# Altium integrated library Transistor.IntLib: 3457 symbols (part 18 of 78)
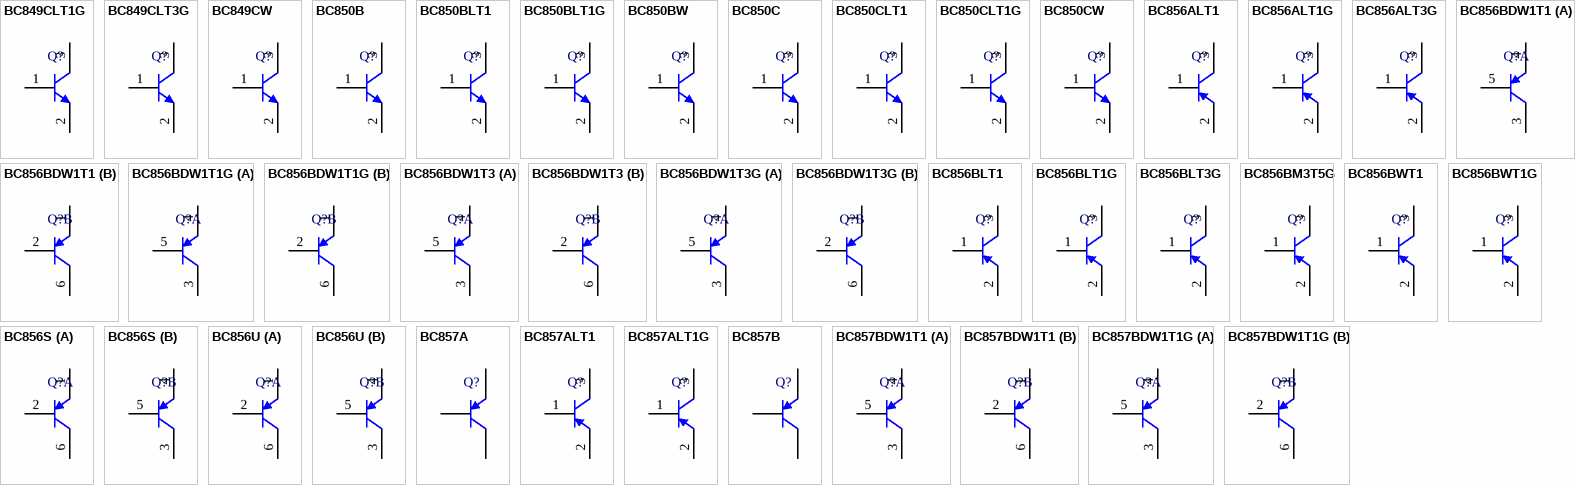
[diagram p111: symbols BC849CLT1G to BC857BDW1T1G]

## BC856ALT3G
designator Q?
General Purpose Transistor, PNP Silicon, 3-Pin SOT-23, Pb-Free, Tape and Reel; Manufacturer: On Semiconductor; PartNumber: BC856ALT3G; fT Min (MHz): 100; IC Continuous (A): -0.1; DatasheetVersion: Rev. 13; PackageVersion: Rev. AP, 11/2009; PackageReference: SOT-23-3-318-08; PackageDescription: 3-Pin Small Outline Transistor, Body 2.92 x 1.3 mm, Pitch 0.95 mm; Supplier 1: Digi-Key; Supplier Part Number 1: BC856ALT3G-ND; Supplier 2: Mouser; Supplier Part Number 2: 863-BC856ALT3G; Packing: Tape and Reel; Polarity: PNP; RoHS: TRUE; Mounting Technology: Surface Mount; ComponentLink1Description: Manufacturer URL; ComponentLink1URL: http://www.onsemi.com/; ComponentLink2Description: Datasheet; ComponentLink2URL: http://www.onsemi.cn/pub_link/Collateral/BC856ALT1-D.PDF; ComponentLink3Description: Package Specification; ComponentLink3URL: http://www.onsemi.cn/pub_link/Collateral/318-08.PDF
footprint ONSC-SOT-23-3-318-08_V (SOT23, 3-Leads, Body 2.92x1.3mm, Pitch 0.95mm)
pins: 1 B, 2 E, 3 C

## BC856BDW1T1
designator Q?
Dual General Purpose Transistors, PNP, 6-Pin SOT-363, Tape and Reel; Manufacturer: On Semiconductor; PartNumber: BC856BDW1T1; fT Min (MHz): 100; IC Continuous (A): -0.1; Polarity: Dual PNP; DatasheetVersion: Rev. 9; PackageVersion: Rev. W, 01/2006; PackageReference: SOT-363-6-419B-02_W; PackageDescription: 6-Pin Small Outline Transistor, Body 2 x 1.25 mm, Pitch 0.65 mm; Supplier 1: Digi-Key; Supplier Part Number 1: BC856BDW1T1-ND; Packing: Tape and Reel; RoHS: FALSE; Mounting Technology: Surface Mount; ComponentLink1Description: Manufacturer URL; ComponentLink1URL: http://www.onsemi.com/; ComponentLink2Description: Datasheet; ComponentLink2URL: http://www.onsemi.cn/pub_link/Collateral/BC856BDW1T1-D.PDF; ComponentLink3Description: Package Specification; ComponentLink3URL: http://www.onsemi.com/pub_link/Collateral/NTJD4001N-D.PDF
footprint ONSC-SOT-363-6-419B-02_W_V (SOT23, 6-Leads, Body 2x1.25mm, Pitch 0.65mm)
part A pins: 3 C, 4 E, 5 B
part B pins: 1 E, 2 B, 6 C

## BC856BDW1T1G
designator Q?
Dual General Purpose Transistors, PNP, 6-Pin SOT-363, Pb-Free, Tape and Reel; Manufacturer: On Semiconductor; PartNumber: BC856BDW1T1G; fT Min (MHz): 100; IC Continuous (A): -0.1; Polarity: Dual PNP; DatasheetVersion: Rev. 9; PackageVersion: Rev. W, 01/2006; PackageReference: SOT-363-6-419B-02_W; PackageDescription: 6-Pin Small Outline Transistor, Body 2 x 1.25 mm, Pitch 0.65 mm; Supplier 1: Digi-Key; Supplier Part Number 1: BC856BDW1T1GOSTR-ND; Supplier 2: Digi-Key; Supplier Part Number 2: BC856BDW1T1GOSCT-ND; Supplier 3: Digi-Key; Supplier Part Number 3: BC856BDW1T1GOSDKR-ND; Supplier 4: Farnell; Supplier Part Number 4: 2317637; Supplier 5: Farnell; Supplier Part Number 5: 2369091; Supplier 6: Newark; Supplier Part Number 6: 26K3474; Supplier 7: Newark; Supplier Part Number 7: 10N9391; Supplier 8: Mouser; Supplier Part Number 8: 863-BC856BDW1T1G; Packing: Tape and Reel; RoHS: TRUE; Mounting Technology: Surface Mount; ComponentLink1Description: Manufacturer URL; ComponentLink1URL: http://www.onsemi.com/; ComponentLink2Description: Datasheet; ComponentLink2URL: http://www.onsemi.cn/pub_link/Collateral/BC856BDW1T1-D.PDF; ComponentLink3Description: Package Specification; ComponentLink3URL: http://www.onsemi.com/pub_link/Collateral/NTJD4001N-D.PDF
footprint ONSC-SOT-363-6-419B-02_W_V (SOT23, 6-Leads, Body 2x1.25mm, Pitch 0.65mm)
part A pins: 3 C, 4 E, 5 B
part B pins: 1 E, 2 B, 6 C

## BC856BDW1T3
designator Q?
Dual General Purpose Transistors, PNP, 6-Pin SOT-363, Tape and Reel; Manufacturer: On Semiconductor; PartNumber: BC856BDW1T3; Note: 0; fT Min (MHz): 100; IC Continuous (A): -0.1; Polarity: Dual PNP; DatasheetVersion: Rev. 9; PackageVersion: Rev. W, 01/2006; PackageReference: SOT-363-6-419B-02_W; PackageDescription: 6-Pin Small Outline Transistor, Body 2 x 1.25 mm, Pitch 0.65 mm; Packing: Tape and Reel; RoHS: FALSE; Mounting Technology: Surface Mount; ComponentLink1Description: Manufacturer URL; ComponentLink1URL: http://www.onsemi.com/; ComponentLink2Description: Datasheet; ComponentLink2URL: http://www.onsemi.cn/pub_link/Collateral/BC856BDW1T1-D.PDF; ComponentLink3Description: Package Specification; ComponentLink3URL: http://www.onsemi.com/pub_link/Collateral/NTJD4001N-D.PDF
footprint ONSC-SOT-363-6-419B-02_W_V (SOT23, 6-Leads, Body 2x1.25mm, Pitch 0.65mm)
part A pins: 3 C, 4 E, 5 B
part B pins: 1 E, 2 B, 6 C

## BC856BDW1T3G
designator Q?
Dual General Purpose Transistors, PNP, 6-Pin SOT-363, Pb-Free, Tape and Reel; Manufacturer: On Semiconductor; PartNumber: BC856BDW1T3G; fT Min (MHz): 100; IC Continuous (A): -0.1; Polarity: Dual PNP; DatasheetVersion: Rev. 9; PackageVersion: Rev. W, 01/2006; PackageReference: SOT-363-6-419B-02_W; PackageDescription: 6-Pin Small Outline Transistor, Body 2 x 1.25 mm, Pitch 0.65 mm; Supplier 1: Digi-Key; Supplier Part Number 1: BC856BDW1T3G-ND; Supplier 2: Mouser; Supplier Part Number 2: 863-BC856BDW1T3G; Packing: Tape and Reel; RoHS: TRUE; Mounting Technology: Surface Mount; ComponentLink1Description: Manufacturer URL; ComponentLink1URL: http://www.onsemi.com/; ComponentLink2Description: Datasheet; ComponentLink2URL: http://www.onsemi.cn/pub_link/Collateral/BC856BDW1T1-D.PDF; ComponentLink3Description: Package Specification; ComponentLink3URL: http://www.onsemi.com/pub_link/Collateral/NTJD4001N-D.PDF
footprint ONSC-SOT-363-6-419B-02_W_V (SOT23, 6-Leads, Body 2x1.25mm, Pitch 0.65mm)
part A pins: 3 C, 4 E, 5 B
part B pins: 1 E, 2 B, 6 C

## BC856BLT1
designator Q?
General Purpose Transistor, PNP Silicon, 3-Pin SOT-23, Tape and Reel; Manufacturer: On Semiconductor; PartNumber: BC856BLT1; fT Min (MHz): 100; IC Continuous (A): -0.1; DatasheetVersion: Rev. 13; PackageVersion: Rev. AP, 11/2009; PackageReference: SOT-23-3-318-08; PackageDescription: 3-Pin Small Outline Transistor, Body 2.92 x 1.3 mm, Pitch 0.95 mm; Supplier 1: Digi-Key; Supplier Part Number 1: BC856BLT1OSCT-ND; Packing: Tape and Reel; Polarity: PNP; RoHS: FALSE; Mounting Technology: Surface Mount; ComponentLink1Description: Manufacturer URL; ComponentLink1URL: http://www.onsemi.com/; ComponentLink2Description: Datasheet; ComponentLink2URL: http://www.onsemi.cn/pub_link/Collateral/BC856ALT1-D.PDF; ComponentLink3Description: Package Specification; ComponentLink3URL: http://www.onsemi.cn/pub_link/Collateral/318-08.PDF
footprint ONSC-SOT-23-3-318-08_V (SOT23, 3-Leads, Body 2.92x1.3mm, Pitch 0.95mm)
pins: 1 B, 2 E, 3 C

## BC856BLT1G
designator Q?
General Purpose Transistor, PNP Silicon, 3-Pin SOT-23, Pb-Free, Tape and Reel; Manufacturer: On Semiconductor; PartNumber: BC856BLT1G; fT Min (MHz): 100; IC Continuous (A): -0.1; DatasheetVersion: Rev. 13; PackageVersion: Rev. AP, 11/2009; PackageReference: SOT-23-3-318-08; PackageDescription: 3-Pin Small Outline Transistor, Body 2.92 x 1.3 mm, Pitch 0.95 mm; Supplier 1: Digi-Key; Supplier Part Number 1: BC856BLT1GOSTR-ND; Supplier 2: Digi-Key; Supplier Part Number 2: BC856BLT1GOSCT-ND; Supplier 3: Digi-Key; Supplier Part Number 3: BC856BLT1GOSDKR-ND; Supplier 4: Farnell; Supplier Part Number 4: 1459043; Supplier 5: Farnell; Supplier Part Number 5: 1459043RL; Supplier 6: Farnell; Supplier Part Number 6: 2317827; Supplier 7: Newark; Supplier Part Number 7: 85W3123; Supplier 8: Newark; Supplier Part Number 8: 88H4573; Supplier 9: Mouser; Supplier Part Number 9: 863-BC856BLT1G; Packing: Tape and Reel; Polarity: PNP; RoHS: TRUE; Mounting Technology: Surface Mount; ComponentLink1Description: Manufacturer URL; ComponentLink1URL: http://www.onsemi.com/; ComponentLink2Description: Datasheet; ComponentLink2URL: http://www.onsemi.cn/pub_link/Collateral/BC856ALT1-D.PDF; ComponentLink3Description: Package Specification; ComponentLink3URL: http://www.onsemi.cn/pub_link/Collateral/318-08.PDF
footprint ONSC-SOT-23-3-318-08_V (SOT23, 3-Leads, Body 2.92x1.3mm, Pitch 0.95mm)
pins: 1 B, 2 E, 3 C

## BC856BLT3G
designator Q?
General Purpose Transistor, PNP Silicon, 3-Pin SOT-23, Pb-Free, Tape and Reel; Manufacturer: On Semiconductor; PartNumber: BC856BLT3G; fT Min (MHz): 100; IC Continuous (A): -0.1; DatasheetVersion: Rev. 13; PackageVersion: Rev. AP, 11/2009; PackageReference: SOT-23-3-318-08; PackageDescription: 3-Pin Small Outline Transistor, Body 2.92 x 1.3 mm, Pitch 0.95 mm; Supplier 1: Digi-Key; Supplier Part Number 1: BC856BLT3GOSTR-ND; Supplier 2: Digi-Key; Supplier Part Number 2: BC856BLT3GOSCT-ND; Supplier 3: Digi-Key; Supplier Part Number 3: BC856BLT3GOSDKR-ND; Supplier 4: Mouser; Supplier Part Number 4: 863-BC856BLT3G; Packing: Tape and Reel; Polarity: PNP; RoHS: TRUE; Mounting Technology: Surface Mount; ComponentLink1Description: Manufacturer URL; ComponentLink1URL: http://www.onsemi.com/; ComponentLink2Description: Datasheet; ComponentLink2URL: http://www.onsemi.cn/pub_link/Collateral/BC856ALT1-D.PDF; ComponentLink3Description: Package Specification; ComponentLink3URL: http://www.onsemi.cn/pub_link/Collateral/318-08.PDF
footprint ONSC-SOT-23-3-318-08_V (SOT23, 3-Leads, Body 2.92x1.3mm, Pitch 0.95mm)
pins: 1 B, 2 E, 3 C

## BC856BM3T5G
designator Q?
General Purpose Transistor, PNP Silicon, 3-Pin SOT-723, Pb-Free, Tape and Reel; Manufacturer: On Semiconductor; PartNumber: BC856BM3T5G; fT Min (MHz): 100; IC Continuous (A): -0.1; DatasheetVersion: Rev. 2; PackageVersion: Rev. D, 08/2009; PackageReference: SOT-723-3-631AA-01; PackageDescription: 3-Pin Small Outline Transistor, Body 1.2 x 0.8 mm, Pitch 0.4 mm; Supplier 1: Digi-Key; Supplier Part Number 1: BC856BM3T5GOSTR-ND; Supplier 2: Digi-Key; Supplier Part Number 2: BC856BM3T5GOSCT-ND; Supplier 3: Digi-Key; Supplier Part Number 3: BC856BM3T5GOSDKR-ND; Supplier 4: Newark; Supplier Part Number 4: 45J0602; Supplier 5: Mouser; Supplier Part Number 5: 863-BC856BM3T5G; Packing: Tape and Reel; Polarity: PNP; RoHS: TRUE; Mounting Technology: Surface Mount; ComponentLink1Description: Manufacturer URL; ComponentLink1URL: http://www.onsemi.com/; ComponentLink2Description: Datasheet; ComponentLink2URL: http://www.onsemi.cn/pub_link/Collateral/BC856BM3-D.PDF; ComponentLink3Description: Package Specification; ComponentLink3URL: http://www.onsemi.com/pub_link/Collateral/631AA.PDF
footprint ONSC-SOT-723-3-631AA-01_V (SOT223, 3-Leads, Body 1.2x0.8mm, Pitch 0.4mm)
pins: 1 B, 2 E, 3 C

## BC856BWT1
designator Q?
General Purpose Transistor, PNP Silicon, 3-Pin SC70, Tape and Reel; Manufacturer: On Semiconductor; PartNumber: BC856BWT1; Note: 0; fT Min (MHz): 100; IC Continuous (A): -0.1; DatasheetVersion: Rev. 3; PackageVersion: Rev. N, 11/2008; PackageReference: SC-70-3-419-04; PackageDescription: 3-Pin Small Outline Transistor, Body 2 x 1.25 mm, Pitch 0.65 mm; Packing: Tape and Reel; Polarity: PNP; RoHS: FALSE; Mounting Technology: Surface Mount; ComponentLink1Description: Manufacturer URL; ComponentLink1URL: http://www.onsemi.com/; ComponentLink2Description: Datasheet; ComponentLink2URL: http://www.onsemi.cn/pub_link/Collateral/BC856BWT1-D.PDF; ComponentLink3Description: Package Specification; ComponentLink3URL: http://www.onsemi.cn/pub_link/Collateral/419-04.PDF
footprint ONSC-SC-70-3-419-04_V (SOT23, 3-Leads, Body 2x1.25mm, Pitch 0.65mm)
pins: 1 B, 2 E, 3 C

## BC856BWT1G
designator Q?
General Purpose Transistor, PNP Silicon, 3-Pin SC70, Pb-Free, Tape and Reel; Manufacturer: On Semiconductor; PartNumber: BC856BWT1G; fT Min (MHz): 100; IC Continuous (A): -0.1; DatasheetVersion: Rev. 3; PackageVersion: Rev. N, 11/2008; PackageReference: SC-70-3-419-04; PackageDescription: 3-Pin Small Outline Transistor, Body 2 x 1.25 mm, Pitch 0.65 mm; Supplier 1: Digi-Key; Supplier Part Number 1: BC856BWT1GOSTR-ND; Supplier 2: Digi-Key; Supplier Part Number 2: BC856BWT1GOSCT-ND; Supplier 3: Digi-Key; Supplier Part Number 3: BC856BWT1GOSDKR-ND; Supplier 4: Newark; Supplier Part Number 4: 98H0506; Supplier 5: Mouser; Supplier Part Number 5: 863-BC856BWT1G; Packing: Tape and Reel; Polarity: PNP; RoHS: TRUE; Mounting Technology: Surface Mount; ComponentLink1Description: Manufacturer URL; ComponentLink1URL: http://www.onsemi.com/; ComponentLink2Description: Datasheet; ComponentLink2URL: http://www.onsemi.cn/pub_link/Collateral/BC856BWT1-D.PDF; ComponentLink3Description: Package Specification; ComponentLink3URL: http://www.onsemi.cn/pub_link/Collateral/419-04.PDF
footprint ONSC-SC-70-3-419-04_V (SOT23, 3-Leads, Body 2x1.25mm, Pitch 0.65mm)
pins: 1 B, 2 E, 3 C

## BC856S
designator Q?
PNP Silicon AF Transistor Array, 65 V VCEO, 100 mA IC, SOT363, Reel, Green; Manufacturer: Infineon; PartNumber: BC856S; fT (typ): 250 MHz; Green: TRUE; IC: 100 mA; ICBO (max): 15 nA; ICM (max): 200 mA; Ptot (max): 250 mV; VCBO (max): 80 V; VCE: 5 V; VCEO (max): 65 V; PackageReference: SOT363; PackageDescription: 6-Pin Small Outline Transistor Package, 1.25 x 2 mm Body; Halogen-free: TRUE; IC (max): 100 mA; Packing: Reel; Polarity: PNP; VCE (max): 5 V; VEBO (max): 5 V; Mounting Technology: Surface Mount; ComponentLink1Description: Manufacturer URL; ComponentLink1URL: http://www.infineon.com/; ComponentLink2Description: Datasheet; ComponentLink2URL: http://www.infineon.com/dgdl/bc856s_bc856u_bc857s.pdf?folderId=db3a30431441fb5d0114498f7eab01ce&fileId=db3a30431441fb5d011449a3156401d8; ComponentLink3Description: Package Specification; ComponentLink3URL: http://www.infineon.com/dgdl/SOT363-Package_Overview.pdf?folderId=db3a30431936bc4b01195360bd8f3cdc&fileId=db3a30431936bc4b0119536b62bf3cf5
footprint INF-SOT363_V (SOT23, 6-Leads, Body 2x1.25 mm, Pitch 0.65 mm)
part A pins: 1 E1, 2 B1, 6 C1
part B pins: 3 C2, 4 E2, 5 B2

## BC856U
designator Q?
PNP Silicon AF Transistor Array, 65 V VCEO, 100 mA IC, SC74, Reel, Green; Manufacturer: Infineon; PartNumber: BC856U; fT (typ): 250 MHz; Green: TRUE; hFE (min): 200; IC (max): 100 mA; ICBO (max): 15 nA; ICM (max): 200 mA; Ptot (max): 250 mW; VCBO (max): 80 V; VCEO (max): 65 V; VEBO (max): 5 V; PackageVersion: Apr-08; PackageReference: SC74; PackageDescription: 6-Pin Semiconductor Package, 2.9 x 1.6 mm Body, 0.95 mm Pitch; Supplier 1: Mouser; Supplier Part Number 1: N/A; Packing: Reel; Polarity: PNP; Mounting Technology: Surface Mount; ComponentLink1Description: Manufacturer URL; ComponentLink1URL: http://www.infineon.com/; ComponentLink2Description: Datasheet; ComponentLink2URL: http://www.infineon.com/dgdl/bc856s_bc856u_bc857s.pdf?folderId=db3a30431441fb5d0114498f7eab01ce&fileId=db3a30431441fb5d011449a3156401d8; ComponentLink3Description: Package Specification; ComponentLink3URL: http://www.infineon.com/dgdl/SC74-Package_Overview.pdf?folderId=db3a30431936bc4b01194dec844f40d9&fileId=db3a30431936bc4b01195175d46e3ab3
footprint INF-SC74_N (SOT23, 6-Leads, Body 2.9x1.6mm, Pitch 0.95mm, IPC Medium Density)
footprint INF-SC74_L (SOT23, 6-Leads, Body 2.9x1.6mm, Pitch 0.95mm, IPC High Density)
footprint INF-SC74_M (SOT23, 6-Leads, Body 2.9x1.6mm, Pitch 0.95mm, IPC Low Density)
part A pins: 1 E1, 2 B1, 6 C1
part B pins: 3 C2, 4 E2, 5 B2

## BC857A
designator Q?
PNP Silicon AF Transistor, 45 V VCEO, 100 mA IC, SOT23, Reel, Green; Manufacturer: Infineon; PartNumber: BC857A; fT (typ): 250 MHz; Green: TRUE; IBM (max): 200 mA; IC (max): 100 mA; ICBO (max): 15 nA; Ptot (max): 330 mW; VCBO (max): 50 V; VCEO (max): 45 V; VEBO (max): 5 V; PackageVersion: Apr-08; PackageReference: SOT23; PackageDescription: 3-Pin Small Outline Transistor Package, 1.3 x 2.9 mm Body, 0.95 mm Pitch; ICM (max): 200 mA; Packing: Reel; Polarity: PNP; Mounting Technology: Surface Mount; ComponentLink1Description: Manufacturer URL; ComponentLink1URL: http://www.infineon.com/; ComponentLink2Description: Datasheet; ComponentLink2URL: http://www.infineon.com/dgdl/bc857series_bc858series_bc859series_bc860series.pdf?folderId=db3a304314dca389011541d30fa21656&fileId=db3a304314dca389011541da0e3a1661; ComponentLink3Description: Package Specification; ComponentLink3URL: http://www.infineon.com/dgdl/SOT23-Package_Overview.pdf?folderId=db3a30431936bc4b0119532290053c66&fileId=db3a30431936bc4b0119533468123c85
footprint INF-SOT23_N (SOT23, 3-Leads, Body 2.9x1.3 mm, Pitch 0.95 mm, IPC Medium Density)
footprint INF-SOT23_L (SOT23, 3-Leads, Body 2.9x1.3 mm, Pitch 0.95 mm, IPC High Density)
footprint INF-SOT23_M (SOT23, 3-Leads, Body 2.9x1.3 mm, Pitch 0.95 mm, IPC Low Density)
pins: 1 B, 2 E, 3 C

## BC857ALT1
designator Q?
General Purpose Transistor, PNP Silicon, 3-Pin SOT-23, Tape and Reel; Manufacturer: On Semiconductor; PartNumber: BC857ALT1; Note: 0; fT Min (MHz): 100; IC Continuous (A): -0.1; DatasheetVersion: Rev. 13; PackageVersion: Rev. AP, 11/2009; PackageReference: SOT-23-3-318-08; PackageDescription: 3-Pin Small Outline Transistor, Body 2.92 x 1.3 mm, Pitch 0.95 mm; Packing: Tape and Reel; Polarity: PNP; RoHS: FALSE; Mounting Technology: Surface Mount; ComponentLink1Description: Manufacturer URL; ComponentLink1URL: http://www.onsemi.com/; ComponentLink2Description: Datasheet; ComponentLink2URL: http://www.onsemi.cn/pub_link/Collateral/BC856ALT1-D.PDF; ComponentLink3Description: Package Specification; ComponentLink3URL: http://www.onsemi.cn/pub_link/Collateral/318-08.PDF
footprint ONSC-SOT-23-3-318-08_V (SOT23, 3-Leads, Body 2.92x1.3mm, Pitch 0.95mm)
pins: 1 B, 2 E, 3 C

## BC857ALT1G
designator Q?
General Purpose Transistor, PNP Silicon, 3-Pin SOT-23, Pb-Free, Tape and Reel; Manufacturer: On Semiconductor; PartNumber: BC857ALT1G; fT Min (MHz): 100; IC Continuous (A): -0.1; DatasheetVersion: Rev. 13; PackageVersion: Rev. AP, 11/2009; PackageReference: SOT-23-3-318-08; PackageDescription: 3-Pin Small Outline Transistor, Body 2.92 x 1.3 mm, Pitch 0.95 mm; Supplier 1: Digi-Key; Supplier Part Number 1: BC857ALT1GOSTR-ND; Supplier 2: Digi-Key; Supplier Part Number 2: BC857ALT1GOSCT-ND; Supplier 3: Digi-Key; Supplier Part Number 3: BC857ALT1GOSDKR-ND; Supplier 4: Newark; Supplier Part Number 4: 45J0603; Supplier 5: Mouser; Supplier Part Number 5: 863-BC857ALT1G; Packing: Tape and Reel; Polarity: PNP; RoHS: TRUE; Mounting Technology: Surface Mount; ComponentLink1Description: Manufacturer URL; ComponentLink1URL: http://www.onsemi.com/; ComponentLink2Description: Datasheet; ComponentLink2URL: http://www.onsemi.cn/pub_link/Collateral/BC856ALT1-D.PDF; ComponentLink3Description: Package Specification; ComponentLink3URL: http://www.onsemi.cn/pub_link/Collateral/318-08.PDF
footprint ONSC-SOT-23-3-318-08_V (SOT23, 3-Leads, Body 2.92x1.3mm, Pitch 0.95mm)
pins: 1 B, 2 E, 3 C

## BC857B
designator Q?
PNP Silicon AF Transistor, 45 V VCEO, 100 mA IC, SOT23, Reel, Green; Manufacturer: Infineon; PartNumber: BC857B; fT (typ): 250 MHz; Green: TRUE; IBM (max): 200 mA; IC (max): 100 mA; ICBO (max): 15 nA; Ptot (max): 330 mW; VCBO (max): 50 V; VCEO (max): 45 V; VEBO (max): 5 V; PackageVersion: Apr-08; PackageReference: SOT23; PackageDescription: 3-Pin Small Outline Transistor Package, 1.3 x 2.9 mm Body, 0.95 mm Pitch; Supplier 1: Arrow; Supplier Part Number 1: GzrebZXGdtZ4H1bLD96Fsz_tSDGv0MrI0uNNxkYYBuE; ICM (max): 200 mA; Packing: Reel; Polarity: PNP; Mounting Technology: Surface Mount; ComponentLink1Description: Manufacturer URL; ComponentLink1URL: http://www.infineon.com/; ComponentLink2Description: Datasheet; ComponentLink2URL: http://www.infineon.com/dgdl/bc857series_bc858series_bc859series_bc860series.pdf?folderId=db3a304314dca389011541d30fa21656&fileId=db3a304314dca389011541da0e3a1661; ComponentLink3Description: Package Specification; ComponentLink3URL: http://www.infineon.com/dgdl/SOT23-Package_Overview.pdf?folderId=db3a30431936bc4b0119532290053c66&fileId=db3a30431936bc4b0119533468123c85
footprint INF-SOT23_N (SOT23, 3-Leads, Body 2.9x1.3 mm, Pitch 0.95 mm, IPC Medium Density)
footprint INF-SOT23_L (SOT23, 3-Leads, Body 2.9x1.3 mm, Pitch 0.95 mm, IPC High Density)
footprint INF-SOT23_M (SOT23, 3-Leads, Body 2.9x1.3 mm, Pitch 0.95 mm, IPC Low Density)
pins: 1 B, 2 E, 3 C

## BC857BDW1T1
designator Q?
Dual General Purpose Transistors, PNP, 6-Pin SOT-363, Tape and Reel; Manufacturer: On Semiconductor; PartNumber: BC857BDW1T1; Note: 0; fT Min (MHz): 100; IC Continuous (A): -0.1; Polarity: Dual PNP; DatasheetVersion: Rev. 9; PackageVersion: Rev. W, 01/2006; PackageReference: SOT-363-6-419B-02_W; PackageDescription: 6-Pin Small Outline Transistor, Body 2 x 1.25 mm, Pitch 0.65 mm; Packing: Tape and Reel; RoHS: FALSE; Mounting Technology: Surface Mount; ComponentLink1Description: Manufacturer URL; ComponentLink1URL: http://www.onsemi.com/; ComponentLink2Description: Datasheet; ComponentLink2URL: http://www.onsemi.cn/pub_link/Collateral/BC856BDW1T1-D.PDF; ComponentLink3Description: Package Specification; ComponentLink3URL: http://www.onsemi.com/pub_link/Collateral/NTJD4001N-D.PDF
footprint ONSC-SOT-363-6-419B-02_W_V (SOT23, 6-Leads, Body 2x1.25mm, Pitch 0.65mm)
part A pins: 3 C, 4 E, 5 B
part B pins: 1 E, 2 B, 6 C

## BC857BDW1T1G
designator Q?
Dual General Purpose Transistors, PNP, 6-Pin SOT-363, Pb-Free, Tape and Reel; Manufacturer: On Semiconductor; PartNumber: BC857BDW1T1G; fT Min (MHz): 100; IC Continuous (A): -0.1; Polarity: Dual PNP; DatasheetVersion: Rev. 9; PackageVersion: Rev. W, 01/2006; PackageReference: SOT-363-6-419B-02_W; PackageDescription: 6-Pin Small Outline Transistor, Body 2 x 1.25 mm, Pitch 0.65 mm; Supplier 1: Digi-Key; Supplier Part Number 1: BC857BDW1T1GOSTR-ND; Supplier 2: Digi-Key; Supplier Part Number 2: BC857BDW1T1GOSCT-ND; Supplier 3: Digi-Key; Supplier Part Number 3: BC857BDW1T1GOSDKR-ND; Supplier 4: Farnell; Supplier Part Number 4: 1653608; Supplier 5: Farnell; Supplier Part Number 5: 1653608RL; Supplier 6: Newark; Supplier Part Number 6: 26K3475; Supplier 7: Mouser; Supplier Part Number 7: 863-BC857BDW1T1G; Packing: Tape and Reel; RoHS: TRUE; Mounting Technology: Surface Mount; ComponentLink1Description: Manufacturer URL; ComponentLink1URL: http://www.onsemi.com/; ComponentLink2Description: Datasheet; ComponentLink2URL: http://www.onsemi.cn/pub_link/Collateral/BC856BDW1T1-D.PDF; ComponentLink3Description: Package Specification; ComponentLink3URL: http://www.onsemi.com/pub_link/Collateral/NTJD4001N-D.PDF
footprint ONSC-SOT-363-6-419B-02_W_V (SOT23, 6-Leads, Body 2x1.25mm, Pitch 0.65mm)
part A pins: 3 C, 4 E, 5 B
part B pins: 1 E, 2 B, 6 C

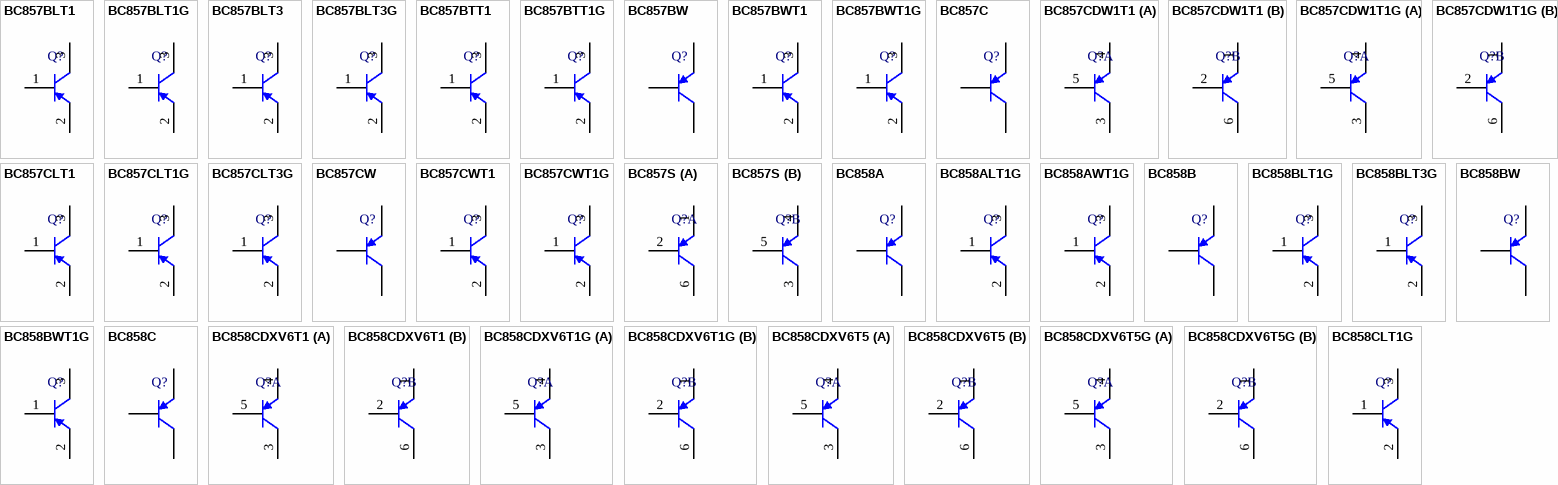
[diagram p21: symbols BC857BLT1 to BC858CLT1G]

## BC857BLT1
designator Q?
General Purpose Transistor, PNP Silicon, 3-Pin SOT-23, Tape and Reel; Manufacturer: On Semiconductor; PartNumber: BC857BLT1; fT Min (MHz): 100; IC Continuous (A): -0.1; DatasheetVersion: Rev. 13; PackageVersion: Rev. AP, 11/2009; PackageReference: SOT-23-3-318-08; PackageDescription: 3-Pin Small Outline Transistor, Body 2.92 x 1.3 mm, Pitch 0.95 mm; Supplier 1: Digi-Key; Supplier Part Number 1: BC857BLT1OSCT-ND; Packing: Tape and Reel; Polarity: PNP; RoHS: FALSE; Mounting Technology: Surface Mount; ComponentLink1Description: Manufacturer URL; ComponentLink1URL: http://www.onsemi.com/; ComponentLink2Description: Datasheet; ComponentLink2URL: http://www.onsemi.cn/pub_link/Collateral/BC856ALT1-D.PDF; ComponentLink3Description: Package Specification; ComponentLink3URL: http://www.onsemi.cn/pub_link/Collateral/318-08.PDF
footprint ONSC-SOT-23-3-318-08_V (SOT23, 3-Leads, Body 2.92x1.3mm, Pitch 0.95mm)
pins: 1 B, 2 E, 3 C

## BC857BLT1G
designator Q?
General Purpose Transistor, PNP Silicon, 3-Pin SOT-23, Pb-Free, Tape and Reel; Manufacturer: On Semiconductor; PartNumber: BC857BLT1G; fT Min (MHz): 100; IC Continuous (A): -0.1; DatasheetVersion: Rev. 13; PackageVersion: Rev. AP, 11/2009; PackageReference: SOT-23-3-318-08; PackageDescription: 3-Pin Small Outline Transistor, Body 2.92 x 1.3 mm, Pitch 0.95 mm; Supplier 1: Digi-Key; Supplier Part Number 1: BC857BLT1GOSTR-ND; Supplier 2: Digi-Key; Supplier Part Number 2: BC857BLT1GOSCT-ND; Supplier 3: Digi-Key; Supplier Part Number 3: BC857BLT1GOSDKR-ND; Supplier 4: Farnell; Supplier Part Number 4: 1459044; Supplier 5: Farnell; Supplier Part Number 5: 1459044RL; Supplier 6: Farnell; Supplier Part Number 6: 2317834; Supplier 7: Newark; Supplier Part Number 7: 85W3125; Supplier 8: Newark; Supplier Part Number 8: 88H4574; Supplier 9: Mouser; Supplier Part Number 9: 863-BC857BLT1G; Packing: Tape and Reel; Polarity: PNP; RoHS: TRUE; Mounting Technology: Surface Mount; ComponentLink1Description: Manufacturer URL; ComponentLink1URL: http://www.onsemi.com/; ComponentLink2Description: Datasheet; ComponentLink2URL: http://www.onsemi.cn/pub_link/Collateral/BC856ALT1-D.PDF; ComponentLink3Description: Package Specification; ComponentLink3URL: http://www.onsemi.cn/pub_link/Collateral/318-08.PDF
footprint ONSC-SOT-23-3-318-08_V (SOT23, 3-Leads, Body 2.92x1.3mm, Pitch 0.95mm)
pins: 1 B, 2 E, 3 C

## BC857BLT3
designator Q?
General Purpose Transistor, PNP Silicon, 3-Pin SOT-23, Tape and Reel; Manufacturer: On Semiconductor; PartNumber: BC857BLT3; Note: 0; fT Min (MHz): 100; IC Continuous (A): -0.1; DatasheetVersion: Rev. 13; PackageVersion: Rev. AP, 11/2009; PackageReference: SOT-23-3-318-08; PackageDescription: 3-Pin Small Outline Transistor, Body 2.92 x 1.3 mm, Pitch 0.95 mm; Packing: Tape and Reel; Polarity: PNP; RoHS: FALSE; Mounting Technology: Surface Mount; ComponentLink1Description: Manufacturer URL; ComponentLink1URL: http://www.onsemi.com/; ComponentLink2Description: Datasheet; ComponentLink2URL: http://www.onsemi.cn/pub_link/Collateral/BC856ALT1-D.PDF; ComponentLink3Description: Package Specification; ComponentLink3URL: http://www.onsemi.cn/pub_link/Collateral/318-08.PDF
footprint ONSC-SOT-23-3-318-08_V (SOT23, 3-Leads, Body 2.92x1.3mm, Pitch 0.95mm)
pins: 1 B, 2 E, 3 C

## BC857BLT3G
designator Q?
General Purpose Transistor, PNP Silicon, 3-Pin SOT-23, Pb-Free, Tape and Reel; Manufacturer: On Semiconductor; PartNumber: BC857BLT3G; fT Min (MHz): 100; IC Continuous (A): -0.1; DatasheetVersion: Rev. 13; PackageVersion: Rev. AP, 11/2009; PackageReference: SOT-23-3-318-08; PackageDescription: 3-Pin Small Outline Transistor, Body 2.92 x 1.3 mm, Pitch 0.95 mm; Supplier 1: Digi-Key; Supplier Part Number 1: BC857BLT3GOSTR-ND; Supplier 2: Digi-Key; Supplier Part Number 2: BC857BLT3GOSCT-ND; Supplier 3: Digi-Key; Supplier Part Number 3: BC857BLT3GOSDKR-ND; Supplier 4: Newark; Supplier Part Number 4: 98H0507; Supplier 5: Mouser; Supplier Part Number 5: 863-BC857BLT3G; Packing: Tape and Reel; Polarity: PNP; RoHS: TRUE; Mounting Technology: Surface Mount; ComponentLink1Description: Manufacturer URL; ComponentLink1URL: http://www.onsemi.com/; ComponentLink2Description: Datasheet; ComponentLink2URL: http://www.onsemi.cn/pub_link/Collateral/BC856ALT1-D.PDF; ComponentLink3Description: Package Specification; ComponentLink3URL: http://www.onsemi.cn/pub_link/Collateral/318-08.PDF
footprint ONSC-SOT-23-3-318-08_V (SOT23, 3-Leads, Body 2.92x1.3mm, Pitch 0.95mm)
pins: 1 B, 2 E, 3 C

## BC857BTT1
designator Q?
General Purpose Transistor, PNP Silicon, 3-Pin SC-75, Tape and Reel; Manufacturer: On Semiconductor; PartNumber: BC857BTT1; fT Min (MHz): 100; IC Continuous (A): -0.1; DatasheetVersion: Rev. 3; PackageVersion: Rev. F, 07/2005; PackageReference: SC-75-3-463-01; PackageDescription: 3-Pin Small Outline Transistor, Body 1.6 x 0.8 mm, Pitch 0.5 mm; Supplier 1: Digi-Key; Supplier Part Number 1: BC857BTT1-ND; Packing: Tape and Reel; Polarity: PNP; RoHS: FALSE; Mounting Technology: Surface Mount; ComponentLink1Description: Manufacturer URL; ComponentLink1URL: http://www.onsemi.com/; ComponentLink2Description: Datasheet; ComponentLink2URL: http://www.onsemi.cn/pub_link/Collateral/BC857BTT1-D.PDF; ComponentLink3Description: Package Specification; ComponentLink3URL: http://www.onsemi.com/pub_link/Collateral/463-01.PDF
footprint ONSC-SC-75-3-463-01_V (SOT23, 3-Leads, Body 1.6x0.8mm, Pitch 0.5mm)
pins: 1 B, 2 E, 3 C

## BC857BTT1G
designator Q?
General Purpose Transistor, PNP Silicon, 3-Pin SC-75, Pb-Free, Tape and Reel; Manufacturer: On Semiconductor; PartNumber: BC857BTT1G; fT Min (MHz): 100; IC Continuous (A): -0.1; DatasheetVersion: Rev. 3; PackageVersion: Rev. F, 07/2005; PackageReference: SC-75-3-463-01; PackageDescription: 3-Pin Small Outline Transistor, Body 1.6 x 0.8 mm, Pitch 0.5 mm; Supplier 1: Digi-Key; Supplier Part Number 1: BC857BTT1GOSTR-ND; Supplier 2: Digi-Key; Supplier Part Number 2: BC857BTT1GOSCT-ND; Supplier 3: Digi-Key; Supplier Part Number 3: BC857BTT1GOSDKR-ND; Supplier 4: Newark; Supplier Part Number 4: 45J0604; Supplier 5: Mouser; Supplier Part Number 5: 863-BC857BTT1G; Packing: Tape and Reel; Polarity: PNP; RoHS: TRUE; Mounting Technology: Surface Mount; ComponentLink1Description: Manufacturer URL; ComponentLink1URL: http://www.onsemi.com/; ComponentLink2Description: Datasheet; ComponentLink2URL: http://www.onsemi.cn/pub_link/Collateral/BC857BTT1-D.PDF; ComponentLink3Description: Package Specification; ComponentLink3URL: http://www.onsemi.com/pub_link/Collateral/463-01.PDF
footprint ONSC-SC-75-3-463-01_V (SOT23, 3-Leads, Body 1.6x0.8mm, Pitch 0.5mm)
pins: 1 B, 2 E, 3 C

## BC857BW
designator Q?
PNP Silicon AF Transistor, 45 V VCEO, 100 mA IC, SOT323, Reel, Green; Manufacturer: Infineon; PartNumber: BC857BW; fT (typ): 250 MHz; Green: TRUE; IBM (max): 200 mA; IC (max): 100 mA; ICBO (max): 15 nA; Ptot (max): 250 mW; VCBO (max): 50 V; VCEO (max): 45 V; VEBO (max): 5 V; PackageReference: SOT323; PackageDescription: 3-Pin Small Outline Transistor Package, 1.25 x 2 mm Body, 0.65 mm Pitch; Halogen-free: TRUE; ICM (max): 200 mA; Packing: Reel; Polarity: PNP; Mounting Technology: Surface Mount; ComponentLink1Description: Manufacturer URL; ComponentLink1URL: http://www.infineon.com/; ComponentLink2Description: Datasheet; ComponentLink2URL: http://www.infineon.com/dgdl/bc857series_bc858series_bc859series_bc860series.pdf?folderId=db3a304314dca389011541d30fa21656&fileId=db3a304314dca389011541da0e3a1661; ComponentLink3Description: Package Specification; ComponentLink3URL: http://www.infineon.com/dgdl/SOT323-Package_Overview.pdf?folderId=db3a30431936bc4b0119533e1dcb3c92&fileId=db3a30431936bc4b011953495f283cb1
footprint INF-SOT323_N (SOT23, 3-Leads, Body 2x1.25 mm, Pitch 0.65 mm, IPC Medium Density)
footprint INF-SOT323_L (SOT23, 3-Leads, Body 2x1.25 mm, Pitch 0.65 mm, IPC High Density)
footprint INF-SOT323_M (SOT23, 3-Leads, Body 2x1.25 mm, Pitch 0.65 mm, IPC Low Density)
pins: 1 B, 2 E, 3 C

## BC857BWT1
designator Q?
General Purpose Transistor, PNP Silicon, 3-Pin SC70, Tape and Reel; Manufacturer: On Semiconductor; PartNumber: BC857BWT1; fT Min (MHz): 100; IC Continuous (A): -0.1; DatasheetVersion: Rev. 3; PackageVersion: Rev. N, 11/2008; PackageReference: SC-70-3-419-04; PackageDescription: 3-Pin Small Outline Transistor, Body 2 x 1.25 mm, Pitch 0.65 mm; Supplier 1: Digi-Key; Supplier Part Number 1: BC857BWT1-ND; Packing: Tape and Reel; Polarity: PNP; RoHS: FALSE; Mounting Technology: Surface Mount; ComponentLink1Description: Manufacturer URL; ComponentLink1URL: http://www.onsemi.com/; ComponentLink2Description: Datasheet; ComponentLink2URL: http://www.onsemi.cn/pub_link/Collateral/BC856BWT1-D.PDF; ComponentLink3Description: Package Specification; ComponentLink3URL: http://www.onsemi.cn/pub_link/Collateral/419-04.PDF
footprint ONSC-SC-70-3-419-04_V (SOT23, 3-Leads, Body 2x1.25mm, Pitch 0.65mm)
pins: 1 B, 2 E, 3 C

## BC857BWT1G
designator Q?
General Purpose Transistor, PNP Silicon, 3-Pin SC70, Pb-Free, Tape and Reel; Manufacturer: On Semiconductor; PartNumber: BC857BWT1G; fT Min (MHz): 100; IC Continuous (A): -0.1; DatasheetVersion: Rev. 3; PackageVersion: Rev. N, 11/2008; PackageReference: SC-70-3-419-04; PackageDescription: 3-Pin Small Outline Transistor, Body 2 x 1.25 mm, Pitch 0.65 mm; Supplier 1: Digi-Key; Supplier Part Number 1: BC857BWT1GOSTR-ND; Supplier 2: Digi-Key; Supplier Part Number 2: BC857BWT1GOSCT-ND; Supplier 3: Digi-Key; Supplier Part Number 3: BC857BWT1GOSDKR-ND; Supplier 4: Mouser; Supplier Part Number 4: 863-BC857BWT1G; Packing: Tape and Reel; Polarity: PNP; RoHS: TRUE; Mounting Technology: Surface Mount; ComponentLink1Description: Manufacturer URL; ComponentLink1URL: http://www.onsemi.com/; ComponentLink2Description: Datasheet; ComponentLink2URL: http://www.onsemi.cn/pub_link/Collateral/BC856BWT1-D.PDF; ComponentLink3Description: Package Specification; ComponentLink3URL: http://www.onsemi.cn/pub_link/Collateral/419-04.PDF
footprint ONSC-SC-70-3-419-04_V (SOT23, 3-Leads, Body 2x1.25mm, Pitch 0.65mm)
pins: 1 B, 2 E, 3 C

## BC857C
designator Q?
PNP Silicon AF Transistor, 45 V VCEO, 100 mA IC, SOT23, Reel, Green; Manufacturer: Infineon; PartNumber: BC857C; fT (typ): 250 MHz; Green: TRUE; IBM (max): 200 mA; IC (max): 100 mA; ICBO (max): 15 nA; Ptot (max): 330 mW; VCBO (max): 50 V; VCEO (max): 45 V; VEBO (max): 5 V; PackageVersion: Apr-08; PackageReference: SOT23; PackageDescription: 3-Pin Small Outline Transistor Package, 1.3 x 2.9 mm Body, 0.95 mm Pitch; ICM (max): 200 mA; Packing: Reel; Polarity: PNP; Mounting Technology: Surface Mount; ComponentLink1Description: Manufacturer URL; ComponentLink1URL: http://www.infineon.com/; ComponentLink2Description: Datasheet; ComponentLink2URL: http://www.infineon.com/dgdl/bc857series_bc858series_bc859series_bc860series.pdf?folderId=db3a304314dca389011541d30fa21656&fileId=db3a304314dca389011541da0e3a1661; ComponentLink3Description: Package Specification; ComponentLink3URL: http://www.infineon.com/dgdl/SOT23-Package_Overview.pdf?folderId=db3a30431936bc4b0119532290053c66&fileId=db3a30431936bc4b0119533468123c85
footprint INF-SOT23_N (SOT23, 3-Leads, Body 2.9x1.3 mm, Pitch 0.95 mm, IPC Medium Density)
footprint INF-SOT23_L (SOT23, 3-Leads, Body 2.9x1.3 mm, Pitch 0.95 mm, IPC High Density)
footprint INF-SOT23_M (SOT23, 3-Leads, Body 2.9x1.3 mm, Pitch 0.95 mm, IPC Low Density)
pins: 1 B, 2 E, 3 C

## BC857CDW1T1
designator Q?
Dual General Purpose Transistors, PNP, 6-Pin SOT-363, Tape and Reel; Manufacturer: On Semiconductor; PartNumber: BC857CDW1T1; fT Min (MHz): 100; IC Continuous (A): -0.1; Polarity: Dual PNP; DatasheetVersion: Rev. 9; PackageVersion: Rev. W, 01/2006; PackageReference: SOT-363-6-419B-02_W; PackageDescription: 6-Pin Small Outline Transistor, Body 2 x 1.25 mm, Pitch 0.65 mm; Supplier 1: Digi-Key; Supplier Part Number 1: BC857CDW1T1-ND; Packing: Tape and Reel; RoHS: FALSE; Mounting Technology: Surface Mount; ComponentLink1Description: Manufacturer URL; ComponentLink1URL: http://www.onsemi.com/; ComponentLink2Description: Datasheet; ComponentLink2URL: http://www.onsemi.cn/pub_link/Collateral/BC856BDW1T1-D.PDF; ComponentLink3Description: Package Specification; ComponentLink3URL: http://www.onsemi.com/pub_link/Collateral/NTJD4001N-D.PDF
footprint ONSC-SOT-363-6-419B-02_W_V (SOT23, 6-Leads, Body 2x1.25mm, Pitch 0.65mm)
part A pins: 3 C, 4 E, 5 B
part B pins: 1 E, 2 B, 6 C

## BC857CDW1T1G
designator Q?
Dual General Purpose Transistors, PNP, 6-Pin SOT-363, Pb-Free, Tape and Reel; Manufacturer: On Semiconductor; PartNumber: BC857CDW1T1G; fT Min (MHz): 100; IC Continuous (A): -0.1; Polarity: Dual PNP; DatasheetVersion: Rev. 9; PackageVersion: Rev. W, 01/2006; PackageReference: SOT-363-6-419B-02_W; PackageDescription: 6-Pin Small Outline Transistor, Body 2 x 1.25 mm, Pitch 0.65 mm; Supplier 1: Digi-Key; Supplier Part Number 1: BC857CDW1T1GOSTR-ND; Supplier 2: Digi-Key; Supplier Part Number 2: BC857CDW1T1GOSCT-ND; Supplier 3: Digi-Key; Supplier Part Number 3: BC857CDW1T1GOSDKR-ND; Supplier 4: Newark; Supplier Part Number 4: 11J6887; Supplier 5: Mouser; Supplier Part Number 5: 863-BC857CDW1T1G; Packing: Tape and Reel; RoHS: TRUE; Mounting Technology: Surface Mount; ComponentLink1Description: Manufacturer URL; ComponentLink1URL: http://www.onsemi.com/; ComponentLink2Description: Datasheet; ComponentLink2URL: http://www.onsemi.cn/pub_link/Collateral/BC856BDW1T1-D.PDF; ComponentLink3Description: Package Specification; ComponentLink3URL: http://www.onsemi.com/pub_link/Collateral/NTJD4001N-D.PDF
footprint ONSC-SOT-363-6-419B-02_W_V (SOT23, 6-Leads, Body 2x1.25mm, Pitch 0.65mm)
part A pins: 3 C, 4 E, 5 B
part B pins: 1 E, 2 B, 6 C

## BC857CLT1
designator Q?
General Purpose Transistor, PNP Silicon, 3-Pin SOT-23, Tape and Reel; Manufacturer: On Semiconductor; PartNumber: BC857CLT1; fT Min (MHz): 100; IC Continuous (A): -0.1; DatasheetVersion: Rev. 13; PackageVersion: Rev. AP, 11/2009; PackageReference: SOT-23-3-318-08; PackageDescription: 3-Pin Small Outline Transistor, Body 2.92 x 1.3 mm, Pitch 0.95 mm; Supplier 1: Digi-Key; Supplier Part Number 1: BC857CLT1OS-ND; Packing: Tape and Reel; Polarity: PNP; RoHS: FALSE; Mounting Technology: Surface Mount; ComponentLink1Description: Manufacturer URL; ComponentLink1URL: http://www.onsemi.com/; ComponentLink2Description: Datasheet; ComponentLink2URL: http://www.onsemi.cn/pub_link/Collateral/BC856ALT1-D.PDF; ComponentLink3Description: Package Specification; ComponentLink3URL: http://www.onsemi.cn/pub_link/Collateral/318-08.PDF
footprint ONSC-SOT-23-3-318-08_V (SOT23, 3-Leads, Body 2.92x1.3mm, Pitch 0.95mm)
pins: 1 B, 2 E, 3 C

## BC857CLT1G
designator Q?
General Purpose Transistor, PNP Silicon, 3-Pin SOT-23, Pb-Free, Tape and Reel; Manufacturer: On Semiconductor; PartNumber: BC857CLT1G; fT Min (MHz): 100; IC Continuous (A): -0.1; DatasheetVersion: Rev. 13; PackageVersion: Rev. AP, 11/2009; PackageReference: SOT-23-3-318-08; PackageDescription: 3-Pin Small Outline Transistor, Body 2.92 x 1.3 mm, Pitch 0.95 mm; Supplier 1: Digi-Key; Supplier Part Number 1: BC857CLT1GOSTR-ND; Supplier 2: Digi-Key; Supplier Part Number 2: BC857CLT1GOSCT-ND; Supplier 3: Digi-Key; Supplier Part Number 3: BC857CLT1GOSDKR-ND; Supplier 4: Farnell; Supplier Part Number 4: 2317869; Supplier 5: Farnell; Supplier Part Number 5: 2317583; Supplier 6: Newark; Supplier Part Number 6: 85W3126; Supplier 7: Newark; Supplier Part Number 7: 45J0606; Supplier 8: Mouser; Supplier Part Number 8: 863-BC857CLT1G; Packing: Tape and Reel; Polarity: PNP; RoHS: TRUE; Mounting Technology: Surface Mount; ComponentLink1Description: Manufacturer URL; ComponentLink1URL: http://www.onsemi.com/; ComponentLink2Description: Datasheet; ComponentLink2URL: http://www.onsemi.cn/pub_link/Collateral/BC856ALT1-D.PDF; ComponentLink3Description: Package Specification; ComponentLink3URL: http://www.onsemi.cn/pub_link/Collateral/318-08.PDF
footprint ONSC-SOT-23-3-318-08_V (SOT23, 3-Leads, Body 2.92x1.3mm, Pitch 0.95mm)
pins: 1 B, 2 E, 3 C

## BC857CLT3G
designator Q?
General Purpose Transistor, PNP Silicon, 3-Pin SOT-23, Pb-Free, Tape and Reel; Manufacturer: On Semiconductor; PartNumber: BC857CLT3G; fT Min (MHz): 100; IC Continuous (A): -0.1; DatasheetVersion: Rev. 13; PackageVersion: Rev. AP, 11/2009; PackageReference: SOT-23-3-318-08; PackageDescription: 3-Pin Small Outline Transistor, Body 2.92 x 1.3 mm, Pitch 0.95 mm; Supplier 1: Digi-Key; Supplier Part Number 1: BC857CLT3G-ND; Supplier 2: Newark; Supplier Part Number 2: 46P7488; Supplier 3: Mouser; Supplier Part Number 3: 863-BC857CLT3G; Packing: Tape and Reel; Polarity: PNP; RoHS: TRUE; Mounting Technology: Surface Mount; ComponentLink1Description: Manufacturer URL; ComponentLink1URL: http://www.onsemi.com/; ComponentLink2Description: Datasheet; ComponentLink2URL: http://www.onsemi.cn/pub_link/Collateral/BC856ALT1-D.PDF; ComponentLink3Description: Package Specification; ComponentLink3URL: http://www.onsemi.cn/pub_link/Collateral/318-08.PDF
footprint ONSC-SOT-23-3-318-08_V (SOT23, 3-Leads, Body 2.92x1.3mm, Pitch 0.95mm)
pins: 1 B, 2 E, 3 C

## BC857CW
designator Q?
PNP Silicon AF Transistor, 45 V VCEO, 100 mA IC, SOT323, Reel, Green; Manufacturer: Infineon; PartNumber: BC857CW; fT (typ): 250 MHz; Green: TRUE; IBM (max): 200 mA; IC (max): 100 mA; ICBO (max): 15 nA; Ptot (max): 250 mW; VCBO (max): 50 V; VCEO (max): 45 V; VEBO (max): 5 V; PackageReference: SOT323; PackageDescription: 3-Pin Small Outline Transistor Package, 1.25 x 2 mm Body, 0.65 mm Pitch; Halogen-free: TRUE; ICM (max): 200 mA; Packing: Reel; Polarity: PNP; Mounting Technology: Surface Mount; ComponentLink1Description: Manufacturer URL; ComponentLink1URL: http://www.infineon.com/; ComponentLink2Description: Datasheet; ComponentLink2URL: http://www.infineon.com/dgdl/bc857series_bc858series_bc859series_bc860series.pdf?folderId=db3a304314dca389011541d30fa21656&fileId=db3a304314dca389011541da0e3a1661; ComponentLink3Description: Package Specification; ComponentLink3URL: http://www.infineon.com/dgdl/SOT323-Package_Overview.pdf?folderId=db3a30431936bc4b0119533e1dcb3c92&fileId=db3a30431936bc4b011953495f283cb1
footprint INF-SOT323_N (SOT23, 3-Leads, Body 2x1.25 mm, Pitch 0.65 mm, IPC Medium Density)
footprint INF-SOT323_L (SOT23, 3-Leads, Body 2x1.25 mm, Pitch 0.65 mm, IPC High Density)
footprint INF-SOT323_M (SOT23, 3-Leads, Body 2x1.25 mm, Pitch 0.65 mm, IPC Low Density)
pins: 1 B, 2 E, 3 C

## BC857CWT1
designator Q?
General Purpose Transistor, PNP Silicon, 3-Pin SC70, Tape and Reel; Manufacturer: On Semiconductor; PartNumber: BC857CWT1; fT Min (MHz): 100; IC Continuous (A): -0.1; DatasheetVersion: Rev. 3; PackageVersion: Rev. N, 11/2008; PackageReference: SC-70-3-419-04; PackageDescription: 3-Pin Small Outline Transistor, Body 2 x 1.25 mm, Pitch 0.65 mm; Supplier 1: Digi-Key; Supplier Part Number 1: BC857CWT1-ND; Packing: Tape and Reel; Polarity: PNP; RoHS: FALSE; Mounting Technology: Surface Mount; ComponentLink1Description: Manufacturer URL; ComponentLink1URL: http://www.onsemi.com/; ComponentLink2Description: Datasheet; ComponentLink2URL: http://www.onsemi.cn/pub_link/Collateral/BC856BWT1-D.PDF; ComponentLink3Description: Package Specification; ComponentLink3URL: http://www.onsemi.cn/pub_link/Collateral/419-04.PDF
footprint ONSC-SC-70-3-419-04_V (SOT23, 3-Leads, Body 2x1.25mm, Pitch 0.65mm)
pins: 1 B, 2 E, 3 C

## BC857CWT1G
designator Q?
General Purpose Transistor, PNP Silicon, 3-Pin SC70, Pb-Free, Tape and Reel; Manufacturer: On Semiconductor; PartNumber: BC857CWT1G; fT Min (MHz): 100; IC Continuous (A): -0.1; DatasheetVersion: Rev. 3; PackageVersion: Rev. N, 11/2008; PackageReference: SC-70-3-419-04; PackageDescription: 3-Pin Small Outline Transistor, Body 2 x 1.25 mm, Pitch 0.65 mm; Supplier 1: Digi-Key; Supplier Part Number 1: BC857CWT1GOSTR-ND; Supplier 2: Digi-Key; Supplier Part Number 2: BC857CWT1GOSCT-ND; Supplier 3: Digi-Key; Supplier Part Number 3: BC857CWT1GOSDKR-ND; Supplier 4: Newark; Supplier Part Number 4: 98H0508; Supplier 5: Mouser; Supplier Part Number 5: 863-BC857CWT1G; Packing: Tape and Reel; Polarity: PNP; RoHS: TRUE; Mounting Technology: Surface Mount; ComponentLink1Description: Manufacturer URL; ComponentLink1URL: http://www.onsemi.com/; ComponentLink2Description: Datasheet; ComponentLink2URL: http://www.onsemi.cn/pub_link/Collateral/BC856BWT1-D.PDF; ComponentLink3Description: Package Specification; ComponentLink3URL: http://www.onsemi.cn/pub_link/Collateral/419-04.PDF
footprint ONSC-SC-70-3-419-04_V (SOT23, 3-Leads, Body 2x1.25mm, Pitch 0.65mm)
pins: 1 B, 2 E, 3 C

## BC857S
designator Q?
PNP Silicon AF Transistor Array, 45 V VCEO, 100 mA IC, SOT363, Reel, Green; Manufacturer: Infineon; PartNumber: BC857S; fT (typ): 250 MHz; Green: TRUE; hFE (min): 200; IC (max): 100 mA; ICBO (max): 15 nA; ICM (max): 200 mA; Ptot (max): 250 mW; VCBO (max): 50 V; VCEO (max): 45 V; VEBO (max): 5 V; PackageReference: SOT363; PackageDescription: 6-Pin Small Outline Transistor Package, 1.25 x 2 mm Body; Halogen-free: TRUE; Packing: Reel; Polarity: PNP; Mounting Technology: Surface Mount; ComponentLink1Description: Manufacturer URL; ComponentLink1URL: http://www.infineon.com/; ComponentLink2Description: Datasheet; ComponentLink2URL: http://www.infineon.com/dgdl/bc856s_bc856u_bc857s.pdf?folderId=db3a304314dca389011541d30fa21656&fileId=db3a304314dca38901154200fdcd16ef; ComponentLink3Description: Package Specification; ComponentLink3URL: http://www.infineon.com/dgdl/SOT363-Package_Overview.pdf?folderId=db3a30431936bc4b01195360bd8f3cdc&fileId=db3a30431936bc4b0119536b62bf3cf5
footprint INF-SOT363_V (SOT23, 6-Leads, Body 2x1.25 mm, Pitch 0.65 mm)
part A pins: 1 E1, 2 B1, 6 C1
part B pins: 3 C2, 4 E2, 5 B2

## BC858A
designator Q?
PNP Silicon AF Transistor, 30 V VCEO, 100 mA IC, SOT23, Reel, Green; Manufacturer: Infineon; PartNumber: BC858A; fT (typ): 250 MHz; Green: TRUE; IBM (max): 200 mA; IC (max): 100 mA; ICBO (max): 15 nA; Ptot (max): 330 mW; VCBO (max): 30 V; VEBO (max): 5 V; PackageVersion: Apr-08; PackageReference: SOT23; PackageDescription: 3-Pin Small Outline Transistor Package, 1.3 x 2.9 mm Body, 0.95 mm Pitch; ICM (max): 200 mA; Packing: Reel; Polarity: PNP; VCEO (max): 30 V; Mounting Technology: Surface Mount; ComponentLink1Description: Manufacturer URL; ComponentLink1URL: http://www.infineon.com/; ComponentLink2Description: Datasheet; ComponentLink2URL: http://www.infineon.com/dgdl/bc857series_bc858series_bc859series_bc860series.pdf?folderId=db3a304314dca389011541d30fa21656&fileId=db3a304314dca389011541da0e3a1661; ComponentLink3Description: Package Specification; ComponentLink3URL: http://www.infineon.com/dgdl/SOT23-Package_Overview.pdf?folderId=db3a30431936bc4b0119532290053c66&fileId=db3a30431936bc4b0119533468123c85
footprint INF-SOT23_N (SOT23, 3-Leads, Body 2.9x1.3 mm, Pitch 0.95 mm, IPC Medium Density)
footprint INF-SOT23_L (SOT23, 3-Leads, Body 2.9x1.3 mm, Pitch 0.95 mm, IPC High Density)
footprint INF-SOT23_M (SOT23, 3-Leads, Body 2.9x1.3 mm, Pitch 0.95 mm, IPC Low Density)
pins: 1 B, 2 E, 3 C

## BC858ALT1G
designator Q?
General Purpose Transistor, PNP Silicon, 3-Pin SOT-23, Pb-Free, Tape and Reel; Manufacturer: On Semiconductor; PartNumber: BC858ALT1G; fT Min (MHz): 100; IC Continuous (A): -0.1; DatasheetVersion: Rev. 13; PackageVersion: Rev. AP, 11/2009; PackageReference: SOT-23-3-318-08; PackageDescription: 3-Pin Small Outline Transistor, Body 2.92 x 1.3 mm, Pitch 0.95 mm; Supplier 1: Digi-Key; Supplier Part Number 1: BC858ALT1GOSTR-ND; Supplier 2: Digi-Key; Supplier Part Number 2: BC858ALT1GOSCT-ND; Supplier 3: Digi-Key; Supplier Part Number 3: BC858ALT1GOSDKR-ND; Supplier 4: Newark; Supplier Part Number 4: 45J0607; Supplier 5: Mouser; Supplier Part Number 5: 863-BC858ALT1G; Packing: Tape and Reel; Polarity: PNP; RoHS: TRUE; Mounting Technology: Surface Mount; ComponentLink1Description: Manufacturer URL; ComponentLink1URL: http://www.onsemi.com/; ComponentLink2Description: Datasheet; ComponentLink2URL: http://www.onsemi.cn/pub_link/Collateral/BC856ALT1-D.PDF; ComponentLink3Description: Package Specification; ComponentLink3URL: http://www.onsemi.cn/pub_link/Collateral/318-08.PDF
footprint ONSC-SOT-23-3-318-08_V (SOT23, 3-Leads, Body 2.92x1.3mm, Pitch 0.95mm)
pins: 1 B, 2 E, 3 C

## BC858AWT1G
designator Q?
General Purpose Transistor, PNP Silicon, 3-Pin SC70, Pb-Free, Tape and Reel; Manufacturer: On Semiconductor; PartNumber: BC858AWT1G; fT Min (MHz): 100; IC Continuous (A): -0.1; DatasheetVersion: Rev. 3; PackageVersion: Rev. N, 11/2008; PackageReference: SC-70-3-419-04; PackageDescription: 3-Pin Small Outline Transistor, Body 2 x 1.25 mm, Pitch 0.65 mm; Supplier 1: Digi-Key; Supplier Part Number 1: BC858AWT1G-ND; Supplier 2: Mouser; Supplier Part Number 2: 863-BC858AWT1G; Packing: Tape and Reel; Polarity: PNP; RoHS: TRUE; Mounting Technology: Surface Mount; ComponentLink1Description: Manufacturer URL; ComponentLink1URL: http://www.onsemi.com/; ComponentLink2Description: Datasheet; ComponentLink2URL: http://www.onsemi.cn/pub_link/Collateral/BC856BWT1-D.PDF; ComponentLink3Description: Package Specification; ComponentLink3URL: http://www.onsemi.cn/pub_link/Collateral/419-04.PDF
footprint ONSC-SC-70-3-419-04_V (SOT23, 3-Leads, Body 2x1.25mm, Pitch 0.65mm)
pins: 1 B, 2 E, 3 C

## BC858B
designator Q?
PNP Silicon AF Transistor, 30 V VCEO, 100 mA IC, SOT23, Reel, Green; Manufacturer: Infineon; PartNumber: BC858B; fT (typ): 250 MHz; Green: TRUE; IBM (max): 200 mA; IC (max): 100 mA; ICBO (max): 15 nA; Ptot (max): 330 mW; VCBO (max): 30 V; VEBO (max): 5 V; PackageVersion: Apr-08; PackageReference: SOT23; PackageDescription: 3-Pin Small Outline Transistor Package, 1.3 x 2.9 mm Body, 0.95 mm Pitch; ICM (max): 200 mA; Packing: Reel; Polarity: PNP; VCEO (max): 30 V; Mounting Technology: Surface Mount; ComponentLink1Description: Manufacturer URL; ComponentLink1URL: http://www.infineon.com/; ComponentLink2Description: Datasheet; ComponentLink2URL: http://www.infineon.com/dgdl/bc857series_bc858series_bc859series_bc860series.pdf?folderId=db3a304314dca389011541d30fa21656&fileId=db3a304314dca389011541da0e3a1661; ComponentLink3Description: Package Specification; ComponentLink3URL: http://www.infineon.com/dgdl/SOT23-Package_Overview.pdf?folderId=db3a30431936bc4b0119532290053c66&fileId=db3a30431936bc4b0119533468123c85
footprint INF-SOT23_N (SOT23, 3-Leads, Body 2.9x1.3 mm, Pitch 0.95 mm, IPC Medium Density)
footprint INF-SOT23_L (SOT23, 3-Leads, Body 2.9x1.3 mm, Pitch 0.95 mm, IPC High Density)
footprint INF-SOT23_M (SOT23, 3-Leads, Body 2.9x1.3 mm, Pitch 0.95 mm, IPC Low Density)
pins: 1 B, 2 E, 3 C